# EAGLE library part SDIP64-ZIF (library tccs_reader)
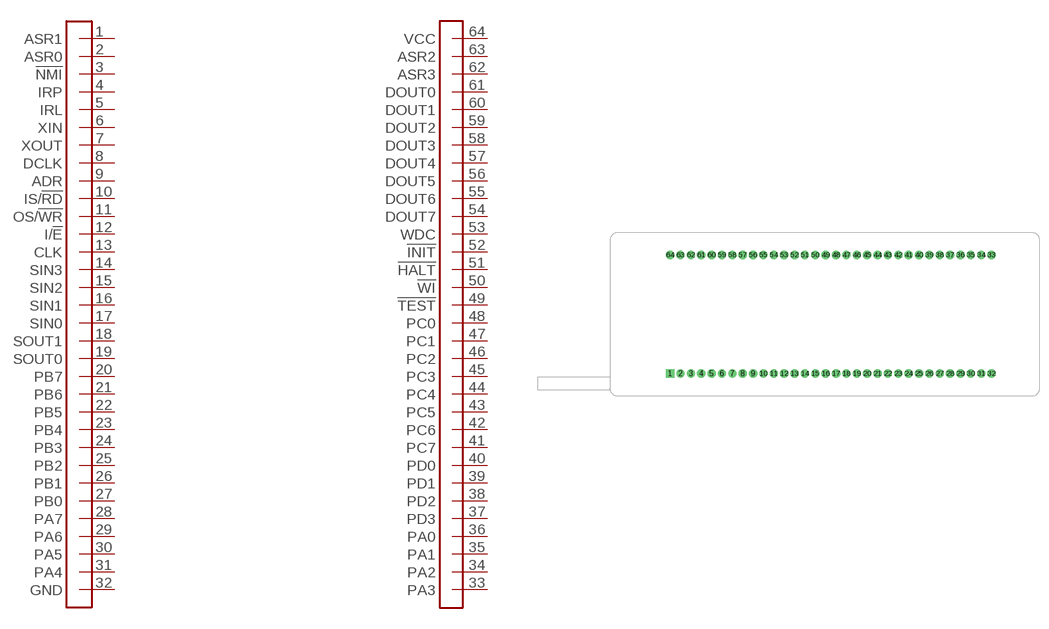
[diagram p6: symbol with the pads of SDIP-64-ZIF; footprint SDIP-64-ZIF]

Designator prefix -

## SDIP64-ZIF  [SDIP-64-ZIF]
1  ASR1
2  ASR0
3  !NMI
4  IRP
5  IRL
6  XIN
7  XOUT
8  DCLK
9  ADR
10  IS/!RD
11  OS/!WR
12  I/!E
13  CLK
14  SIN3
15  SIN2
16  SIN1
17  SIN0
18  SOUT1
19  SOUT0
20  PB7
21  PB6
22  PB5
23  PB4
24  PB3
25  PB2
26  PB1
27  PB0
28  PA7
29  PA6
30  PA5
31  PA4
32  GND
33  PA3
34  PA2
35  PA1
36  PA0
37  PD3
38  PD2
39  PD1
40  PD0
41  PC7
42  PC6
43  PC5
44  PC4
45  PC3
46  PC2
47  PC1
48  PC0
49  !TEST
50  !WI
51  !HALT
52  !INIT
53  WDC
54  DOUT7
55  DOUT6
56  DOUT5
57  DOUT4
58  DOUT3
59  DOUT2
60  DOUT1
61  DOUT0
62  ASR3
63  ASR2
64  VCC

## Footprint SDIP-64-ZIF (pad centres in mm)
drill 0.9 square: 1 -27.559,-10.16
drill 0.9 round: 2 -25.781,-10.16; 3 -24.003,-10.16; 4 -22.225,-10.16; 5 -20.447,-10.16; 6 -18.669,-10.16; 7 -16.891,-10.16; 8 -15.113,-10.16; 9 -13.335,-10.16; 10 -11.557,-10.16; 11 -9.779,-10.16; 12 -8.001,-10.16; 13 -6.223,-10.16; 14 -4.445,-10.16; 15 -2.667,-10.16; 16 -0.889,-10.16; 17 0.889,-10.16; 18 2.667,-10.16; 19 4.445,-10.16; 20 6.223,-10.16; 21 8.001,-10.16; 22 9.779,-10.16; 23 11.557,-10.16; 24 13.335,-10.16; 25 15.113,-10.16; 26 16.891,-10.16; 27 18.669,-10.16; 28 20.447,-10.16; 29 22.225,-10.16; 30 24.003,-10.16; 31 25.781,-10.16; 32 27.559,-10.16; 33 27.559,10.16; 34 25.781,10.16; 35 24.003,10.16; 36 22.225,10.16; 37 20.447,10.16; 38 18.669,10.16; 39 16.891,10.16; 40 15.113,10.16; 41 13.335,10.16; 42 11.557,10.16; 43 9.779,10.16; 44 8.001,10.16; 45 6.223,10.16; 46 4.445,10.16; 47 2.667,10.16; 48 0.889,10.16; 49 -0.889,10.16; 50 -2.667,10.16; 51 -4.445,10.16; 52 -6.223,10.16; 53 -8.001,10.16; 54 -9.779,10.16; 55 -11.557,10.16; 56 -13.335,10.16; 57 -15.113,10.16; 58 -16.891,10.16; 59 -18.669,10.16; 60 -20.447,10.16; 61 -22.225,10.16; 62 -24.003,10.16; 63 -25.781,10.16; 64 -27.559,10.16